# Altium integrated library T491C106K025AT.IntLib: 1 symbol
Pins are listed as number, name and electrical type; pins without a type are passive.

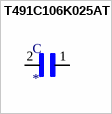
[diagram p0: symbol T491C106K025AT]

## T491C106K025AT
designator C
10ÂµF Molded Tantalum Capacitors 25V 2312 _6032 Metric_ 1.5Ohm; MF: KEMET; MP: T491C106K025AT; SnapEDA_Link: https://www.snapeda.com/parts/T491C106K025AT/KEMET/view-part/53512/?ref=snap; Digi-Key_Part_Number: 399-3734-1-ND; Value: *; Digi-Key_Purchase_URL: https://www.digikey.com/product-detail/en/kemet/T491C106K025AT/399-3734-1-ND/819059?utm_source=snapeda&utm_medium=aggregator&utm_campaign=symbol; Package: 2413 Kemet
footprint CAPPC6032X280N
pins: 1, 2